# EAGLE library part 7SEGACOM4* (library mita-akiba)
4-digits 7-segment LED Anode Common
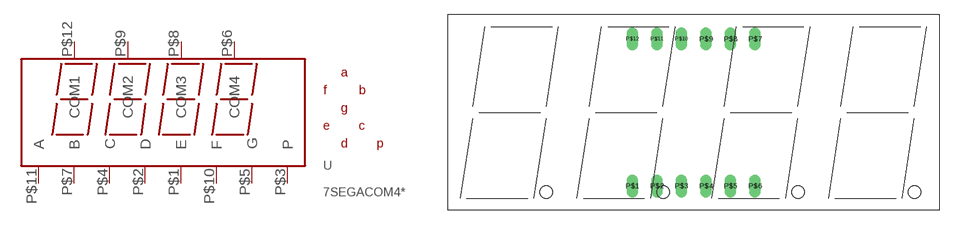
[diagram p67: symbol with the pads of 7SEG4-5019; footprint 7SEG4-5019]

Designator prefix -

## 7SEGACOM45019  [7SEG4-5019]
P$1  E
P$2  D
P$3  P
P$4  C
P$5  G
P$6  COM4
P$7  B
P$8  COM3
P$9  COM2
P$10  F
P$11  A
P$12  COM1

## Footprint 7SEG4-5019 (pad centres in mm)
drill 0.7 long: P$1 -6.35,-7.62; P$2 -3.81,-7.62; P$3 -1.27,-7.62; P$4 1.27,-7.62; P$5 3.81,-7.62; P$6 6.35,-7.62; P$7 6.35,7.62; P$8 3.81,7.62; P$9 1.27,7.62; P$10 -1.27,7.62; P$11 -3.81,7.62; P$12 -6.35,7.62